# EAGLE library part TLV61046A (library IC_Power-Management)
28-V Output Voltage Boost Converter with Power Diode and Isolation Switch Datasheet <https://www.ti.com/lit/ds/symlink/tlv61046a.pdf?ts=1593533651619&ref_url=https%253A%252F%252Fwww.google.com%252F>
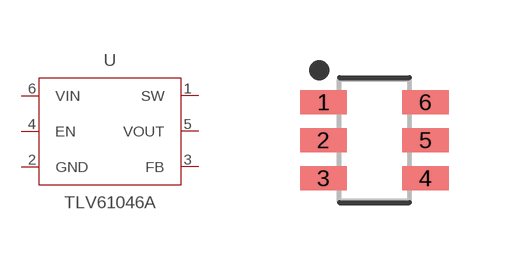
[diagram p7: symbol with the pads of SOT95P280X145-6N; footprint SOT95P280X145-6N]

Designator prefix -

## TLV61046ADBVR_SOT23 (CATEGORY: IC_Power-Management; DESCRIPTION: IC REG BOOST ADJ SOT23-6; INPUT_VOLTAGE: 1.8V to 5.5V; MANUFACTURER: TI; MPN: TLV61046ADBVR; OPERATING_TEMP: -40°C ~ 85°C; OUTPUT_VOLTAGE: 3.3V to 28V; PART_STATUS: Active; ROHS_COMPLIANT: Yes; SUB-CATEGORY: Voltage Regulator; TOPOLOGY: BOOST; TYPE: DC-DC Switching; VALUE: TLV61046A), TLV61046ADBVT_SOT23 (CATEGORY: IC_Power-Management; DESCRIPTION: IC REG BOOST ADJ SOT23-6; INPUT_VOLTAGE: 1.8V to 5.5V; MANUFACTURER: TI; MPN: TLV61046ADBVT; OPERATING_TEMP: -40°C ~ 85°C; OUTPUT_VOLTAGE: 3.3V to 28V; PART_STATUS: Active; ROHS_COMPLIANT: Yes; SUB-CATEGORY: Voltage Regulator; TOPOLOGY: BOOST; TYPE: DC-DC Switching; VALUE: TLV61046A)  [SOT95P280X145-6N]
1  SW  pwr
2  GND  pwr
3  FB  in
4  EN  in
5  VOUT  pwr
6  VIN  in

## Footprint SOT95P280X145-6N (pad centres in mm)
6-SOT23, 0.95 mm pitch, 2.80 mm span, 2.92 X 1.63 X 1.45 mm body 6-pin SOT23 package with 0.95 mm pitch, 2.80 mm span with body size 2.92 X 1.63 X 1.45 mm
smd 1.165 x 0.597: 1 -1.275,0.95; 2 -1.275,0; 3 -1.275,-0.95; 4 1.275,-0.95; 5 1.275,0; 6 1.275,0.95